# EAGLE library part FL6/8 (library 1_Robo-Lib)
TRANSFORMER 2 primary winding, 2 secondary windings, mounting holes BLOCK
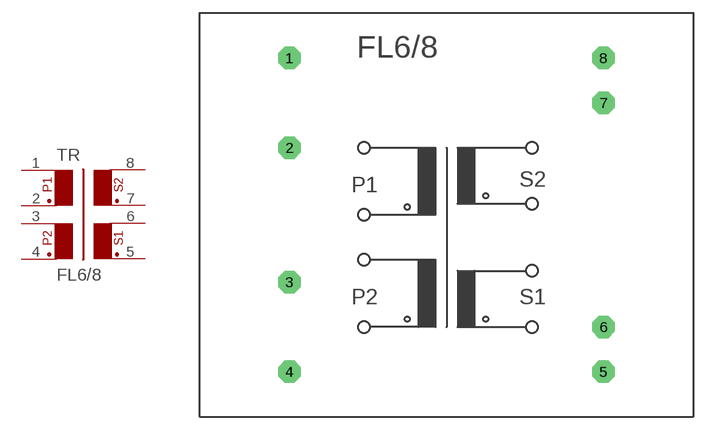
[diagram p3: symbol with the pads of FL6/8; footprint FL6/8]

Designator prefix TR

## FL6/8  [FL6/8]
1  1  pas
2  2  pas
3  3  pas
4  4  pas
5  5  pas
6  6  pas
7  7  pas
8  8  pas

## Footprint FL6/8 (pad centres in mm)
TRANSFORMER 2 primary winding, 2 secondary windings, mounting holes
drill 0.8 pad 2.54 octagon: 1 -17.78,20.32; 2 -17.78,10.16; 3 -17.78,-5.08; 4 -17.78,-15.24; 5 17.78,-15.24; 6 17.78,-10.16; 7 17.78,15.24; 8 17.78,20.32